# Altium footprint library Test_Stand_Pergam.PcbLib: 15 footprints
Each footprint in its own frame and in the unit in brackets; x right, y up, seen from the top. Pads: shape width x height; smd on the part's side, far side on the other; paste and mask are expansions set on the pad; w line width, h text height; cw(c..) or ccw(c..) is an arc to the next point about the centre after c.
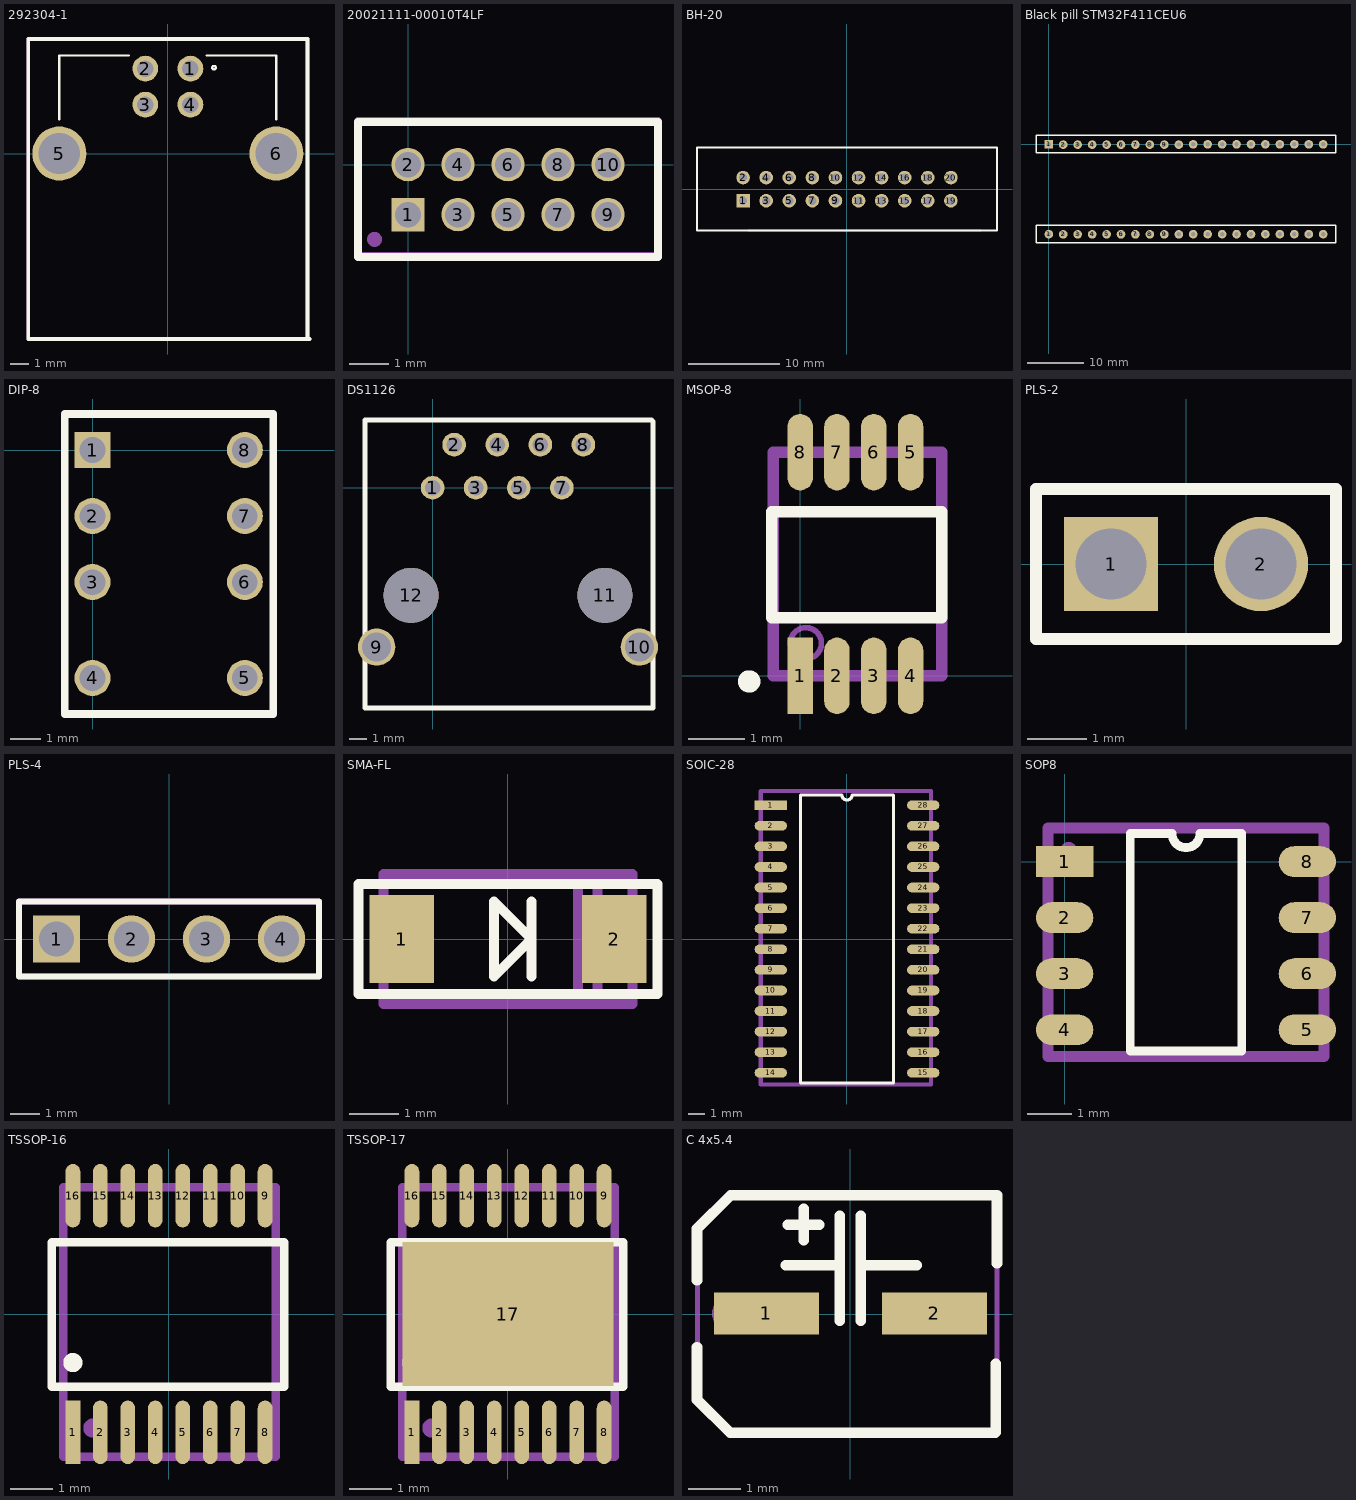
[diagram p0: the footprints below, top view; thin cyan lines are the x and y axes]

## 292304-1 [mm]
height 0.65
pads (6):
  round 1.428 hole 0.92: 1(1.25,4.71) 2(-1.25,4.71) 3(-1.25,2.71) 4(1.25,2.71)
  round 3 hole 2.3: 5(-6.02,0) 6(6.02,0)
Top Overlay:
  circle w0.127: c2.56,4.76 r0.098
  lines w0.127: -6.015,1.905 -6.015,5.43 -2.16,5.43 ; 2.16,5.43 6.015,5.43 6.015,1.905
  lines w0.2: -7.747,-10.287 7.874,-10.287 7.747,-10.287 7.747,6.35 -7.747,6.35 -7.747,-10.287
Mechanical 29:
  lines w0.2: -7.747,-10.287 -7.747,6.35 7.747,6.35 7.747,-10.287 7.874,-10.287 -7.747,-10.287
  text "'.Designator'" at -1.4,-0.385 h0.39
3D body "usb_a-usbsb.stp": height 11.28, standoff -2.72, extent -7.275,-10.25 7.324,6.25

## 20021111-00010T4LF [mm]
pads (10):
  rect 0.85x0.85 hole 0.65: 1(0,-1.27)
  round 0.85 hole 0.65: 2(0,0) 3(1.27,-1.27) 4(1.27,0) 5(2.54,-1.27) 6(2.54,0) 7(3.81,-1.27) 8(3.81,0) 9(5.08,-1.27) 10(5.08,0)
Top Overlay:
  lines w0.2: -1.27,-2.35 6.35,-2.35 6.35,1.08 -1.27,1.08 -1.27,-2.35
Mechanical 29:
  circle w0.254: c-0.85,-1.9 r0.063
  lines w0.2: -1.27,-2.32 6.35,-2.32 6.35,1.11 -1.27,1.11 -1.27,-2.32
  text "'.Designator" at -1.162,1.654 h0.7

## BH-20 [mm]
height 8.5
pads (20):
  rect 1.5x1.5 hole 0.9: 1(-11.43,-1.27)
  round 1.5 hole 0.9: 2(-11.43,1.27) 3(-8.89,-1.27) 4(-8.89,1.27) 5(-6.35,-1.27) 6(-6.35,1.27) 7(-3.81,-1.27) 8(-3.81,1.27) 9(-1.27,-1.27) 10(-1.27,1.27) 11(1.27,-1.27) 12(1.27,1.27) 13(3.81,-1.27) 14(3.81,1.27) 15(6.35,-1.27) 16(6.35,1.27) 17(8.89,-1.27) 18(8.89,1.27) 19(11.43,-1.27) 20(11.43,1.27)
Top Overlay:
  lines w0.2: -16.5,4.56 -16.5,-4.54 16.505,-4.54 16.505,4.56 ; -16.5,4.575 16.505,4.575
Mechanical 29:
  lines w0.2: -10.8,-4.54 14.67,-4.54
3D body "User Library-BH-20.STEP": height 8.75, standoff -3.1, extent -16.495,-4.55 16.525,4.55

## Black pill STM32F411CEU6 [mil]
pads (40):
  round 60 hole 30: 1(0,-622.05) 2(100,-623.62) 2(100,-1.57) 3(200,-623.62) 3(200,-1.57) 4(300,-623.62) 4(300,-1.57) 5(400,-623.62) 5(400,-1.57) 6(500,-623.62) 6(500,-1.57) 7(600,-623.62) 7(600,-1.57) 8(700,-623.62) 8(700,-1.57) 9(800,-623.62) 9(800,-1.57) 10(900,-623.62) 10(900,-1.57) 11(1000,-622.05) 11(1000,0) 12(1100,-622.05) 12(1100,0) 13(1200,-622.05) 13(1200,0) 14(1300,-622.05) 14(1300,0) 15(1400,-622.05) 15(1400,0) 16(1500,-622.05) 16(1500,0) 17(1600,-622.05) 17(1600,0) 18(1700,-622.05) 18(1700,0) 19(1800,-622.05) 19(1800,0) 20(1900,-622.05) 20(1900,0)
  rect 60x60 hole 30: 1(0,0)
Top Overlay:
  lines w10: -88.58,-683.07 -88.58,-561.02 1988.58,-561.02 1988.58,-683.07 -88.58,-683.07 ; -88.58,-57.48 -88.58,64.57 1988.58,64.57 1988.58,-57.48 -88.58,-57.48

## DIP-8 [mm]
pads (8):
  rect 1.2x1.2 hole 0.85: 1(0,0)
  round 1.2 hole 0.85: 2(0,-2.2) 3(0,-4.4) 4(0,-7.6) 5(5.08,-7.6) 6(5.08,-4.4) 7(5.08,-2.2) 8(5.08,0)
Top Overlay:
  lines w0.254: -0.925,-8.8 6.025,-8.8 6.025,1.2 -0.925,1.2 -0.925,-8.8
3D body "User Library-IM03TS.STEP": height 5.66, standoff -3.2, extent -0.475,-8.825 5.525,1.175

## DS1126 [mm] "RJ-45 Sheilded Connector"
height 16.25
pads (12):
  round 1.4 hole 0.9: 1(0,0) 2(1.27,2.54) 3(2.54,0) 4(3.81,2.54) 5(5.08,0) 6(6.35,2.54) 7(7.62,0) 8(8.89,2.54)
  round 2.2 hole 1.7: 9(-3.305,-9.4) 10(12.195,-9.4)
  round 3.25 hole 3.25 unplated: 11(10.16,-6.35) 12(-1.27,-6.35)
Top Overlay:
  lines w0.3: -4,-13 13,-13 13,3.9 12.9,4 5,4 -4,4 -4,-13
Mechanical 29:
  lines w0.2: -4,-13 13,-13 13,4 -4,4 -4,-13
  text "'.Designator'" at 2.8,-4.2 h1

## MSOP-8 [mm] "8-Lead Mini Small Outline Package [MSOP]"
height 1.1
pads (8):
  rect 0.45x1.35 smd: 1(0,0)
  oval 0.45x1.35 smd: 2(0.65,0) 3(1.3,0) 4(1.95,0) 5(1.95,3.95) 6(1.3,3.95) 7(0.65,3.95) 8(0,3.95)
Top Overlay:
  circle w0.254: c-0.9,-0.1 r0.071
  lines w0.2: -0.5,1.025 2.5,1.025 2.5,2.9 -0.5,2.9 -0.5,1.025
Mechanical 29:
  circle w0.254: c-0.025,0 r0.05
  circle w0.1: c0.1,0.575 r0.275
  lines w0.2: -0.475,0 2.5,0 2.5,3.95 -0.475,3.95 -0.475,0
  text "'.Designator'" at -0.1,1.7 h0.5
3D body "MSOP-8-1EP_3x3mm_P0.65mm_EP1.68x1.88mm.step": height 0.95, standoff 0, extent -0.5,-0.45 2.5,4.45

## PLS-2 [mm]
pads (2):
  rect 1.6x1.6 hole 1.2: 1(-1.27,0)
  round 1.6 hole 1.2: 2(1.27,0)
Top Overlay:
  lines w0.2: -2.54,-1.27 2.54,-1.27 2.54,1.27 -2.54,1.27 -2.54,-1.27
Mechanical 29:
  lines w0.2: -2.54,-1.27 2.54,-1.27 2.54,1.27 -2.54,1.27 -2.54,-1.27
  text "'.Designator'" at -1.905,-0.425 h1
3D body "User Library-PLS2.STEP": height 8.54, standoff -3, extent -2.54,-1.27 2.54,1.27

## PLS-4 [mm]
pads (4):
  rect 1.6x1.6 hole 1.2: 1(-3.81,0)
  round 1.6 hole 1.2: 2(-1.27,0) 3(1.27,0) 4(3.81,0)
Top Overlay:
  lines w0.2: -5.08,-1.27 5.08,-1.27 5.08,1.27 -5.08,1.27 -5.08,-1.27
Mechanical 29:
  lines w0.2: -5.08,-1.27 -5.08,1.27 ; -5.08,-1.27 5.08,-1.27 ; -5.08,-1.27 -5.08,1.27 ; -5.08,-1.27 5.08,-1.27 ; -5.08,1.27 5.08,1.27 ; -5.08,1.27 5.08,1.27 ; 5.08,-1.27 5.08,1.27 ; 5.08,-1.27 5.08,1.27
  text "'.Designator'" at -1.8,-0.5 h1
3D body "User Library-1x4 TH Pitch 2_54mm.STEP": height 9.2, standoff -3.5, extent -5.08,-1.27 5.08,1.27

## SMA-FL [mm]
height 1.1
pads (2):
  rect 1.3x1.76 smd: 1(-2.13,0) 2(2.13,0)
Top Overlay:
  lines w0.2: 0.47,-0.75 0.47,0.75 ; -3,-1.1 -3,1.1 3,1.1 3,-1.1 -3,-1.1 ; -0.28,-0.75 -0.28,0.75 0.47,0 -0.28,-0.75
Mechanical 29:
  lines w0.2: 1.4,-1.3 1.4,1.3 ; 1.8,-1.3 1.8,1.3 ; -2.5,-1.3 2.5,-1.3 2.5,1.3 -2.5,1.3 -2.5,-1.3
  text "'.Designator'" at -2.2,0 h0.39
3D body "User Library-sma-fl.STEP": height 1.2, standoff 0, extent -2.55,-1.3 2.55,1.3

## SOIC-28 [mm]
pads (28):
  rect 2x0.6 smd: 1(-4.7,8.255)
  oval 2x0.6 smd: 2(-4.7,6.985) 3(-4.7,5.715) 4(-4.7,4.445) 5(-4.7,3.175) 6(-4.7,1.905) 7(-4.7,0.635) 8(-4.7,-0.635) 9(-4.7,-1.905) 10(-4.7,-3.175) 11(-4.7,-4.445) 12(-4.7,-5.715) 13(-4.7,-6.985) 14(-4.7,-8.255) 15(4.7,-8.255) 16(4.7,-6.985) 17(4.7,-5.715) 18(4.7,-4.445) 19(4.7,-3.175) 20(4.7,-1.905) 21(4.7,-0.635) 22(4.7,0.635) 23(4.7,1.905) 24(4.7,3.175) 25(4.7,4.445) 26(4.7,5.715) 27(4.7,6.985) 28(4.7,8.255)
Top Overlay:
  lines w0.2: -2.865,-8.89 -2.865,8.89 -0.318,8.89 ccw(c0,8.89) 0.318,8.89 2.865,8.89 2.865,-8.89 -2.865,-8.89
Mechanical 29:
  lines w0.254: -5.32,-8.985 -5.32,9.115 -5.31,9.125 5.18,9.125 5.18,8.945 5.18,-8.985 -5.32,-8.985
  text "'.Designator'" at -3.99,-0.237 h0.7
3D body "User Library-SOIC-28-300.STEP": height 2.61, standoff 0.01, extent -5.325,-9.07 5.275,9.03

## SOP8 [mm]
pads (8):
  rect 1.3x0.7 smd: 1(0,0)
  oval 1.3x0.7 smd: 2(0,-1.27) 3(0,-2.54) 4(0,-3.81) 5(5.5,-3.81) 6(5.5,-2.54) 7(5.5,-1.27) 8(5.5,0)
Top Overlay:
  lines w0.2: 1.485,-4.29 1.485,0.635 2.432,0.635 ccw(c2.75,0.635) 3.067,0.635 4.015,0.635 4.015,-4.29 1.485,-4.29
Mechanical 29:
  circle w0.254: c0.09,0.265 r0.054
  lines w0.254: -0.38,-4.415 5.88,-4.415 5.88,0.765 -0.38,0.765 -0.38,-4.415
  text "'.Designator'" at 2.85,-1.582 h0.7
3D body "User Library-sop8_model.STEP": height 1.57, standoff 0.01, extent -0.24,-4.275 5.74,0.625

## TSSOP-16 [mm] "16-Lead Thin Shrink Small Outline Package [TSSOP]"
height 1.2
pads (16):
  rect 0.35x1.5 smd: 1(-2.275,-2.8)
  oval 0.35x1.5 smd: 2(-1.625,-2.8) 3(-0.975,-2.8) 4(-0.325,-2.8) 5(0.325,-2.8) 6(0.975,-2.8) 7(1.625,-2.8) 8(2.275,-2.8) 9(2.275,2.8) 10(1.625,2.8) 11(0.975,2.8) 12(0.325,2.8) 13(-0.325,2.8) 14(-0.975,2.8) 15(-1.625,2.8) 16(-2.275,2.8)
Top Overlay:
  circle w0.254: c-2.275,-1.15 r0.1
  lines w0.2: -2.775,-1.725 2.725,-1.725 2.725,1.7 -2.775,1.7 -2.775,-1.725
Mechanical 29:
  circle w0.254: c-1.8,-2.7 r0.1
  lines w0.2: -2.5,-3.375 2.525,-3.375 2.525,3 -2.5,3 -2.5,-3.375
  text "'.Designator'" at 0.5,-1.8 h1
3D body "TSSOP-16-1EP_4.4x5mm_P0.65mm.step": height 1.1, standoff 0, extent -2.5,-3.2 2.5,3.2

## TSSOP-17 [mm] "16+1-Lead Thin Shrink Small Outline Package [TSSOP]"
height 1.2
pads (17):
  rect 0.35x1.5 smd: 1(-2.275,-2.8)
  oval 0.35x1.5 smd: 2(-1.625,-2.8) 3(-0.975,-2.8) 4(-0.325,-2.8) 5(0.325,-2.8) 6(0.975,-2.8) 7(1.625,-2.8) 8(2.275,-2.8) 9(2.275,2.8) 10(1.625,2.8) 11(0.975,2.8) 12(0.325,2.8) 13(-0.325,2.8) 14(-0.975,2.8) 15(-1.625,2.8) 16(-2.275,2.8)
  rect 5x3.4 smd: 17(0,0)
Top Overlay:
  circle w0.254: c-2.275,-1.15 r0.1
  lines w0.2: -2.775,-1.725 -2.775,1.7 2.725,1.7 2.725,-1.725 -2.775,-1.725
Mechanical 29:
  circle w0.254: c-1.8,-2.7 r0.1
  lines w0.2: -2.5,-3.375 -2.5,3 2.525,3 2.525,-3.375 -2.5,-3.375
  text "'.Designator'" at 0.5,-1.8 h1
3D body "TSSOP-16-1EP_4.4x5mm_P0.65mm.step": height 1.1, standoff 0, extent -2.5,-3.2 2.5,3.2

## С 4x5.4 [mm]
pads (2):
  rect 2x0.8 smd: 1(-1.6,0.01) 2(1.6,0.01)
Top Overlay:
  lines w0.2: -2.92,-0.63 -2.92,-1.63 -2.29,-2.26 2.76,-2.26 2.77,-2.25 2.77,-0.95 ; -2.92,0.64 -2.92,1.62 -2.28,2.26 ; -1.23,0.93 -0.23,0.93 ; -1.19,1.7 -0.59,1.7 ; -0.89,1.4 -0.89,2 ; -0.2,-0.13 -0.2,1.87 ; 0.2,-0.13 0.2,1.87 ; 0.26,0.93 1.26,0.93 ; 2.79,0.97 2.79,2.26 -2.28,2.26 ; -2.28,2.26 -2.28,2.26
Mechanical 29:
  circle w0.38: c-2.24,0.01 r0.204
  lines w0.1: -2.309,-2.251 -2.91,-1.65 -2.91,1.63 -2.309,2.231 ; -2.3,-2.26 2.79,-2.26 2.79,2.24 -2.3,2.24
  text "'.Designator'" at -1.69,-0.58 h1